# Altium schematic symbol library SCH - POWER - SWITCHMODE - TI TPS51103_DRC_10.SchLib: 1 symbol
Pins are listed as number, name and electrical type; pins without a type are passive.

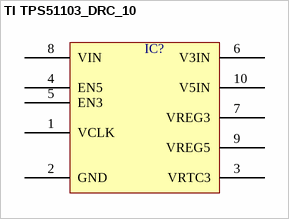
[diagram p0: symbol TI TPS51103_DRC_10]

## TI TPS51103_DRC_10
designator IC?  (value not drawn)
pins: 1 VCLK, 2 GND, 3 VRTC3, 4 EN5, 5 EN3, 6 V3IN, 7 VREG3, 8 VIN, 9 VREG5, 10 V5IN